# EAGLE library part WE-RJ45_7498010210A (library 7499511611A_Eagle_WE-RJ45_rev20a)
WE-RJ45 LAN Transformer Characteristics RJ45 Connector with integrated transformer / common mode choke Power over Ethernet up to 50 Watt and speeds up to 10 Gbit/s Available in SMD, THT and THT with USB Compliant with standards: IEEE 802.3u, IEEE 802.3ab, IEEE 802.3af, IEEE 802.3at, IEEE 802.3an and upcoming IEE 802.3bt Applications Suitable for industrial temperatures from –40 °C up to +85 °C Compatible to Industrial Ethernet systems like EtherCAT or Profinet Compliant with most IC’s for Ethernet applications such as Microchip, Texas Instruments, Broadcom, Linear Technology Hubs, Routers, Switches, IP cameras, IoT applications <https://katalog.we-online.com/media/images/v2/o35731v209%20Family_WE-RJ45-LAN.jpg> Details see: https://katalog.we-online.com/en/pbs/WE-LAN-RJ45 Updated by Ella Wu 2019-08-05 2019 (C) Wurth Elektronik
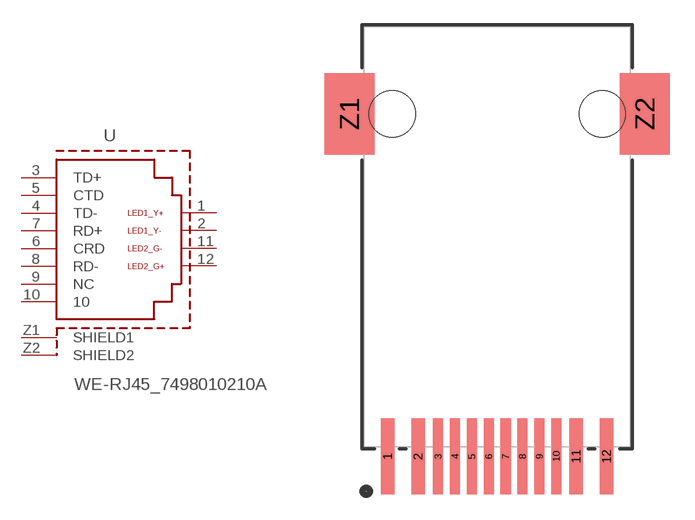
[diagram p33: symbol with the pads of 7498010210A; footprint 7498010210A]

Designator prefix -

## WE-RJ45_7498010210A (DATA-RATE: 10/100 Base-T; DATASHEET-URL: https://www.we-online.com/catalog/datasheet/7498010210A.pdf; LED: green-yellow; MOUNT: SMT; PART-NUMBER: 7498010210A; POE: non-PoE; PORTS: 1; USB: No)  [7498010210A]
1  LED1_Y+
2  LED1_Y-
3  TD+
4  TD-
5  CTD
6  CRD
7  RD+
8  RD-
9  NC
10  10
11  LED2_G-
12  LED2_G+
Z1  SHIELD1  pwr
Z2  SHIELD2  pwr

## Footprint 7498010210A (pad centres in mm)
WE-RJ45 LAN Transformer 10/100 Base-T
smd 0.81 x 4.6: 1 -6.61,-20.69; 2 -4.77,-20.69; 11 4.77,-20.69; 12 6.61,-20.69
smd 0.61 x 4.6: 3 -3.57,-20.69; 4 -2.55,-20.69; 5 -1.53,-20.69; 6 -0.51,-20.69; 7 0.51,-20.69; 8 1.53,-20.69; 9 2.55,-20.69; 10 3.57,-20.69
smd 3 x 4.9: Z1 -8.92,0; Z2 8.92,0
hole 2.8 at -6.35,0
hole 2.8 at 6.35,0